# Altium schematic symbol library Arduino.SchLib: 6 symbols
Pins are listed as number, name and electrical type; pins without a type are passive.

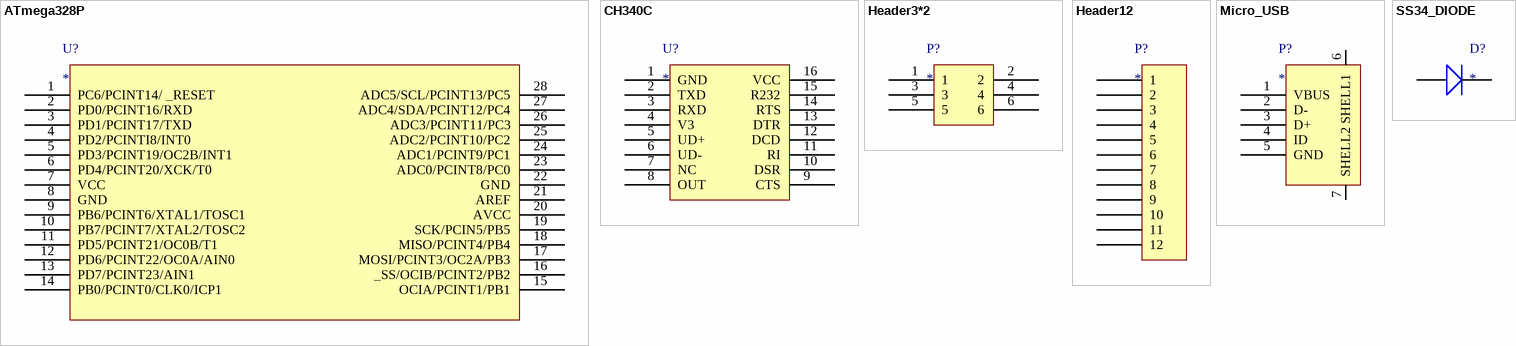
[diagram p0: symbols ATmega328P to SS34_DIODE]

## ATmega328P
designator U?
pins: 1 PC6/PCINT14/ _RESET, 2 PD0/PCINT16/RXD, 3 PD1/PCINT17/TXD, 4 PD2/PCINTI8/INT0, 5 PD3/PCINT19/OC2B/INT1, 6 PD4/PCINT20/XCK/T0, 7 VCC, 8 GND, 9 PB6/PCINT6/XTAL1/TOSC1 , 10 PB7/PCINT7/XTAL2/TOSC2 , 11 PD5/PCINT21/OC0B/T1, 12 PD6/PCINT22/OC0A/AIN0, 13 PD7/PCINT23/AIN1, 14 PB0/PCINT0/CLK0/ICP1, 15 OCIA/PCINT1/PB1, 16 _SS/OCIB/PCINT2/PB2, 17 MOSI/PCINT3/OC2A/PB3, 18 MISO/PCINT4/PB4, 19 SCK/PCIN5/PB5, 20 AVCC, 21 AREF, 22 GND, 23 ADC0/PCINT8/PC0, 24 ADC1/PCINT9/PC1, 25 ADC2/PCINT10/PC2, 26 ADC3/PCINT11/PC3, 27 ADC4/SDA/PCINT12/PC4, 28 ADC5/SCL/PCINT13/PC5

## CH340C
designator U?
pins: 1 GND, 2 TXD, 3 RXD, 4 V3, 5 UD+, 6 UD-, 7 NC, 8 OUT, 9 CTS, 10 DSR, 11 RI, 12 DCD, 13 DTR, 14 RTS, 15 R232, 16 VCC

## Header3*2
designator P?
pins: 1, 2, 3, 4, 5, 6

## Header12
designator P?
pins: 1, 2, 3, 4, 5, 6, 7, 8, 9, 10, 11, 12

## Micro_USB
designator P?
pins: 1 VBUS, 2 D-, 3 D+, 4 ID, 5 GND, 6 SHELL1, 7 SHELL2

## SS34_DIODE
designator D?
pins: ?1, ?2